# Altium footprint library SAMTEC_MTMM-101-X-X-S-X.PcbLib: 1 footprints
Each footprint in its own frame and in the unit in brackets; x right, y up, seen from the top. Pads: shape width x height; smd on the part's side, far side on the other; paste and mask are expansions set on the pad; w line width, h text height; cw(c..) or ccw(c..) is an arc to the next point about the centre after c.
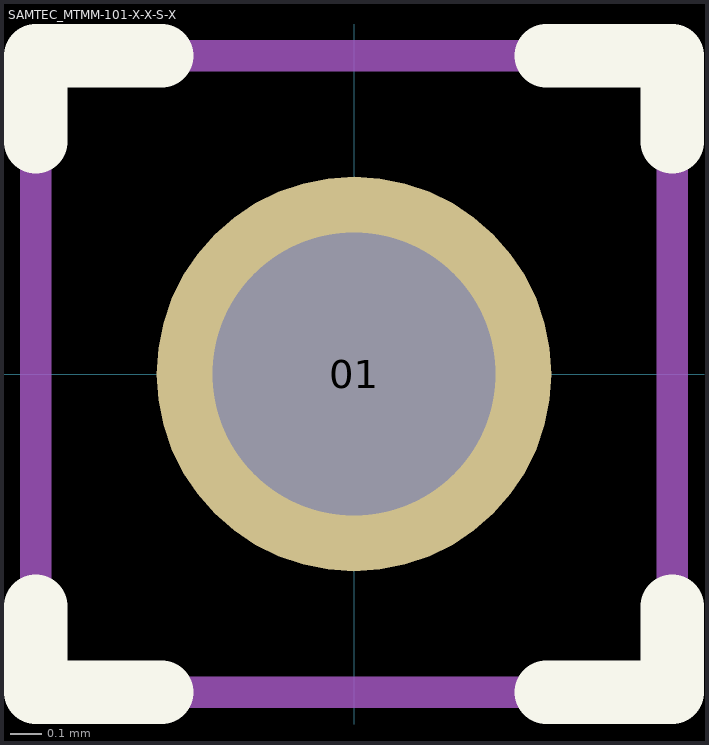
[diagram p0: the footprint, top view; thin cyan lines are the x and y axes]

## SAMTEC_MTMM-101-X-X-S-X [mm]
pads (1):
  round 1.24 hole 0.89: 01(0,0)
Top Overlay:
  lines w0.2: -1,-0.73 -1,-1 -0.605,-1 ; -1,0.73 -1,1 -0.605,1 ; 0.605,-1 1,-1 1,-0.73 ; 0.605,1 1,1 1,0.73
Mechanical 13:
  lines w0.1: -1,-1 1,-1 1,1 -1,1 -1,-1
3D body "MTMM-101-03-T-S-120.stp": height 4.55, standoff -3.12, extent -1,-0.999 1,0.999